# Altium schematic symbol library PSC3M5_E-LQFP-80.SchLib: 1 symbol
Pins are listed as number, name and electrical type; pins without a type are passive.

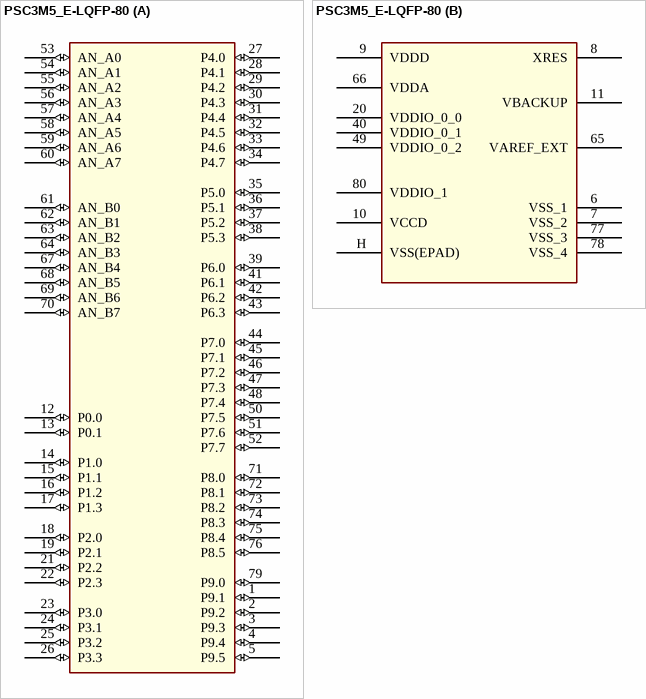
[diagram p0: symbol PSC3M5_E-LQFP-80]

## PSC3M5_E-LQFP-80
designator U?
SWAP_INFO: (S1+S2); SPLIT_INST: TRUE
part A pins: 1 P9.1 (io), 2 P9.2 (io), 3 P9.3 (io), 4 P9.4 (io), 5 P9.5 (io), 12 P0.0 (io), 13 P0.1 (io), 14 P1.0 (io), 15 P1.1 (io), 16 P1.2 (io), 17 P1.3 (io), 18 P2.0 (io), 19 P2.1 (io), 21 P2.2 (io), 22 P2.3 (io), 23 P3.0 (io), 24 P3.1 (io), 25 P3.2 (io), 26 P3.3 (io), 27 P4.0 (io), 28 P4.1 (io), 29 P4.2 (io), 30 P4.3 (io), 31 P4.4 (io), 32 P4.5 (io), 33 P4.6 (io), 34 P4.7 (io), 35 P5.0 (io), 36 P5.1 (io), 37 P5.2 (io), 38 P5.3 (io), 39 P6.0 (io), 41 P6.1 (io), 42 P6.2 (io), 43 P6.3 (io), 44 P7.0 (io), 45 P7.1 (io), 46 P7.2 (io), 47 P7.3 (io), 48 P7.4 (io), 50 P7.5 (io), 51 P7.6 (io), 52 P7.7 (io), 53 AN_A0 (io), 54 AN_A1 (io), 55 AN_A2 (io), 56 AN_A3 (io), 57 AN_A4 (io), 58 AN_A5 (io), 59 AN_A6 (io), 60 AN_A7 (io), 61 AN_B0 (io), 62 AN_B1 (io), 63 AN_B2 (io), 64 AN_B3 (io), 67 AN_B4 (io), 68 AN_B5 (io), 69 AN_B6 (io), 70 AN_B7 (io), 71 P8.0 (io), 72 P8.1 (io), 73 P8.2 (io), 74 P8.3 (io), 75 P8.4 (io), 76 P8.5 (io), 79 P9.0 (io)
part B pins: 6 VSS_1 (power), 7 VSS_2 (power), 8 XRES, 9 VDDD (power), 10 VCCD (power), 11 VBACKUP (power), 20 VDDIO_0_0 (power), 40 VDDIO_0_1 (power), 49 VDDIO_0_2 (power), 65 VAREF_EXT (power), 66 VDDA (power), 77 VSS_3 (power), 78 VSS_4 (power), 80 VDDIO_1 (power), H VSS(EPAD) (power)